# Altium schematic symbol library spider.SchLib: 53 symbols
Pins are listed as number, name and electrical type; pins without a type are passive.

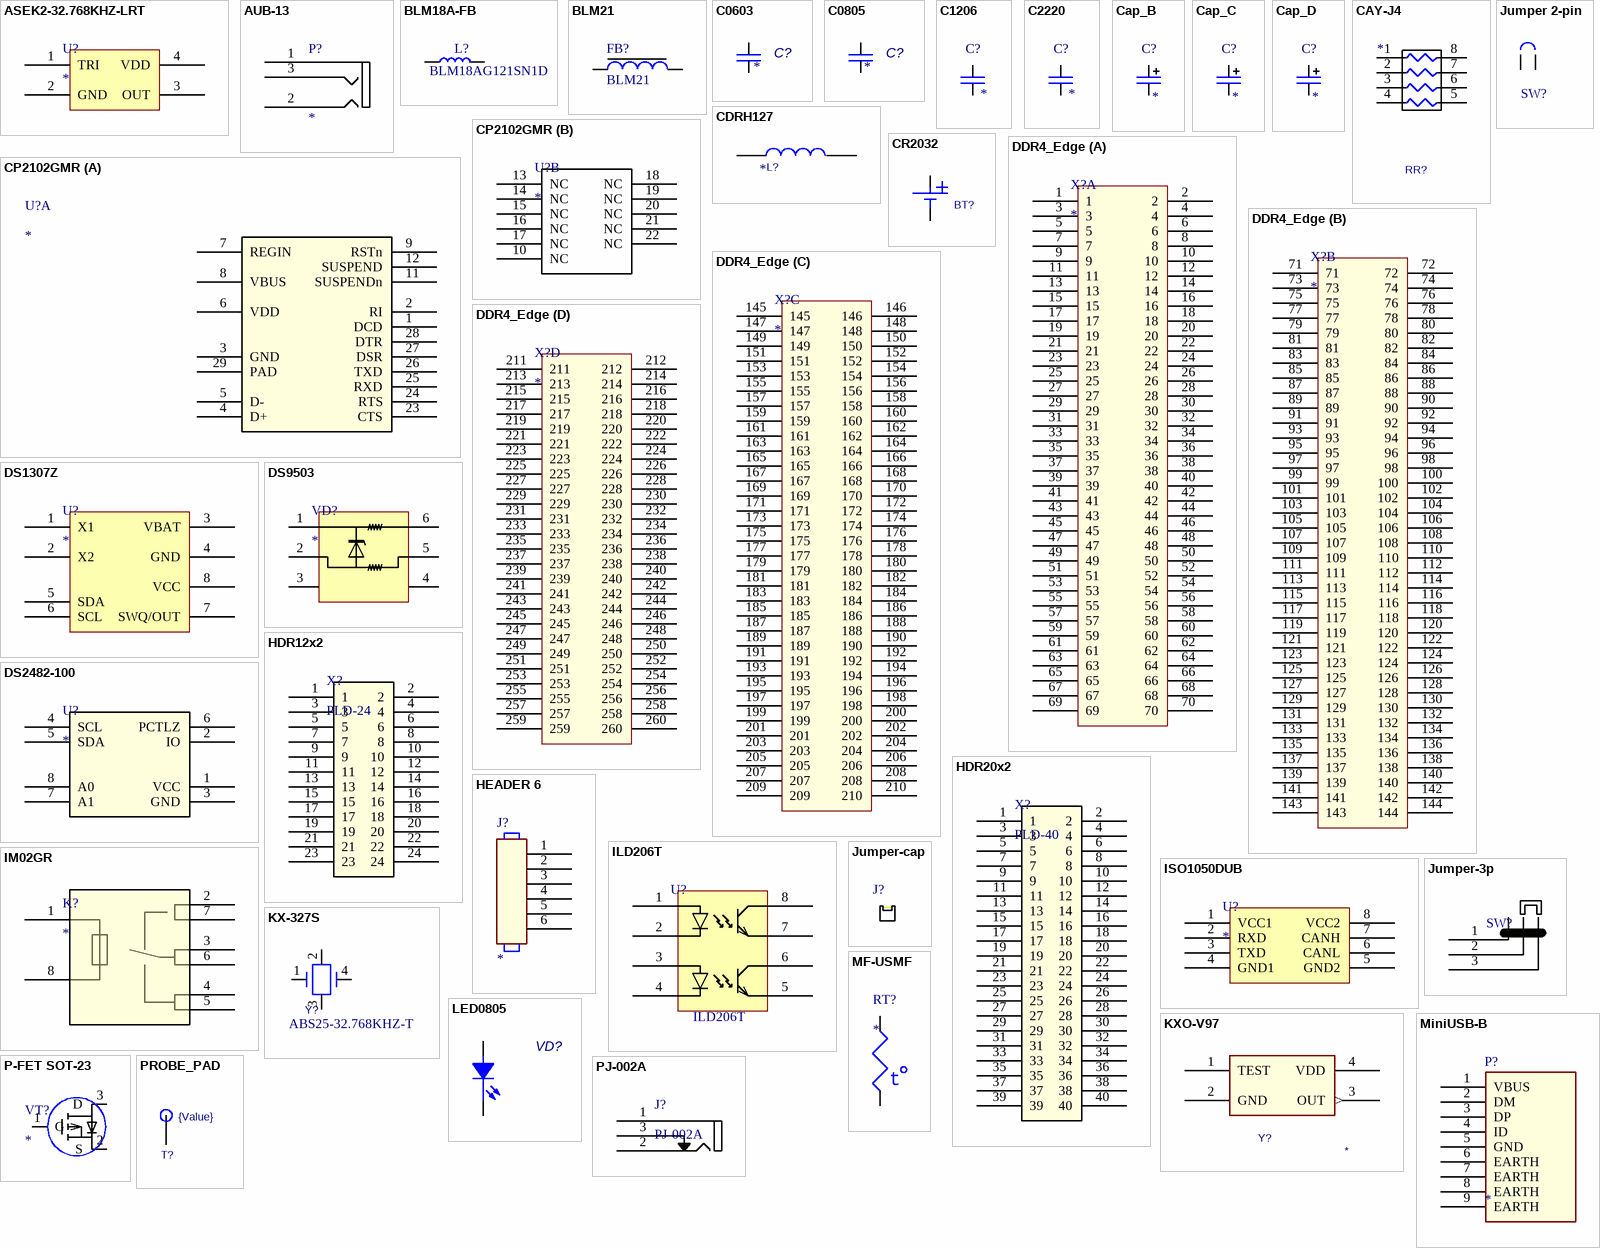
[diagram p0: symbols ASEK2-32.768KHZ-LRT to PROBE_PAD]

## ASEK2-32.768KHZ-LRT
designator U?
32.768KHZ 1.8V oscillator; Manufacturer: Abracon; P/N: ASEK2-32.768KHZ-LRT
footprint DDR4 SO_DIMM connector (2309407-1)
pins: 1 TRI, 2 GND, 3 OUT, 4 VDD

## AUB-13
designator P?
Audio connector mini-jack 3.5mm, 3 pins; Vendor: brownbear.ru
footprint AUB_13 (3.5mm audio jack, PTH on pcb, 3 contacts)
pins: 1 GND, 2 RIGHT, 3 LEFT

## BLM18A-FB
designator L?  P/N: BLM18AG121SN1D  (hidden comment: *)
Chip EMIFILr Inductor Type; Manufacturer: Murata
footprint CHIP0603
pins: 1, 2

## BLM21
designator FB?
Ferrite bead; Manufacturer: Murata; P/N: BLM21AG601SN1D; Package: 0805
footprint CC2012-0805 (Chip Capacitor, 2-Leads, Body 2,0x1,25mm, IPC Medium Density)
pins: 1, 2

## C0603
designator C?
C0603; P/N: *; Value: *
footprint CC1608-0603 (Chip Capacitor, 2-Leads, Body 1,6x0,8mm, IPC Medium Density)
pins: 1, 2

## C0805
designator C?
C0805; P/N: *; Value: *
footprint CC2012-0805 (Chip Capacitor, 2-Leads, Body 2,0x1,25mm, IPC Medium Density)
pins: 1, 2

## C1206
designator C?
Ceramic capacitor SMD 1206; P/N: *; Value: *
footprint CC3216-1206 (Chip Capacitor; Body 3.2 x 1.6 mm (LxW typ))
pins: 1, 2

## C2220
designator C?
Ceramic capacitor SMD 2220; P/N: *; Value: *
footprint C2220
pins: 1, 2

## Cap_B
designator C?
Tantalum Capacitor Case D; P/N: *; Value: *
footprint CAP_B (Capacitor, SM Tantalum; Body 3.5 x 2.8 mm (LxW typ))
pins: 1, 2

## Cap_C
designator C?
Tantalum Capacitor Case C; P/N: *; Value: *
footprint Cap_C (Capacitor, SM Tantalum; Body 6.0 x 3.2 mm (LxW typ))
pins: 1, 2

## Cap_D
designator C?
Tantalum Capacitor Case D; P/N: *; Value: *
footprint Cap_D (Capacitor, SM Tantalum; Body 7.3 x 4.3 mm (LxW typ))
pins: 1, 2

## CAY-J4
designator RR?
Resistor network 4x; Value: *
footprint CAY16-J4
pins: 1, 2, 3, 4, 5, 6, 7, 8

## CDRH127
designator L?
POWER INDUCTORS; Manufacturer: Sumida; P/N: *; Value: *
footprint CDRH127
pins: 1, 2

## CP2102GMR
designator U?
USB UART convertor; P/N: CP2102-GMR
footprint Qfn28-0.5
part A pins: 1 DCD, 2 RI, 3 GND, 4 D+, 5 D-, 6 VDD, 7 REGIN, 8 VBUS, 9 RSTn, 11 SUSPENDn, 12 SUSPEND, 23 CTS, 24 RTS, 25 RXD, 26 TXD, 27 DSR, 28 DTR, 29 PAD
part B pins: 10 NC, 13 NC, 14 NC, 15 NC, 16 NC, 17 NC, 18 NC, 19 NC, 20 NC, 21 NC, 22 NC

## CR2032
designator BT?  (value not drawn)
CR2032 battery holder; P/N: BH2032CH25
footprint BH2032CH25
pins: 1 0, 2 1

## DDR4_Edge
designator X?
DDR4 edge memory SO-DIMM connector, 260 pin; P/N: 2309407-1
footprint DDR4 SO_DIMM connector (2309407-1)
part A pins: 1, 2, 3, 4, 5, 6, 7, 8, 9, 10, 11, 12, 13, 14, 15, 16, 17, 18, 19, 20, 21, 22, 23, 24, 25, 26, 27, 28, 29, 30, 31, 32, 33, 34, 35, 36, 37, 38, 39, 40, 41, 42, 43, 44, 45, 46, 47, 48, 49, 50, 51, 52, 53, 54, 55, 56, 57, 58, 59, 60, 61, 62, 63, 64, 65, 66, 67, 68, 69, 70
part B pins: 71, 72, 73, 74, 75, 76, 77, 78, 79, 80, 81, 82, 83, 84, 85, 86, 87, 88, 89, 90, 91, 92, 93, 94, 95, 96, 97, 98, 99, 100, 101, 102, 103, 104, 105, 106, 107, 108, 109, 110, 111, 112, 113, 114, 115, 116, 117, 118, 119, 120, 121, 122, 123, 124, 125, 126, 127, 128, 129, 130, 131, 132, 133, 134, 135, 136, 137, 138, 139, 140, 141, 142, 143, 144
part C pins: 145, 146, 147, 148, 149, 150, 151, 152, 153, 154, 155, 156, 157, 158, 159, 160, 161, 162, 163, 164, 165, 166, 167, 168, 169, 170, 171, 172, 173, 174, 175, 176, 177, 178, 179, 180, 181, 182, 183, 184, 185, 186, 187, 188, 189, 190, 191, 192, 193, 194, 195, 196, 197, 198, 199, 200, 201, 202, 203, 204, 205, 206, 207, 208, 209, 210
part D pins: 211, 212, 213, 214, 215, 216, 217, 218, 219, 220, 221, 222, 223, 224, 225, 226, 227, 228, 229, 230, 231, 232, 233, 234, 235, 236, 237, 238, 239, 240, 241, 242, 243, 244, 245, 246, 247, 248, 249, 250, 251, 252, 253, 254, 255, 256, 257, 258, 259, 260

## DS1307Z
designator U?
I2C Real-Time Clock; Manufacturer: Maxim/Dallas; P/N: DS1307Z
footprint SOIC127P600X175-8N (SOIC 8, Pitch 1.27mm - Body 4x5mm, IPC Medium Density)
pins: 1 X1, 2 X2, 3 VBAT, 4 GND, 5 SDA, 6 SCL, 7 SWQ/OUT, 8 VCC

## DS2482-100
designator U?
I2C - 1-Wire master single channel; P/N: DS2482S-100+
footprint SOIC127P600X175-8N (SOIC 8, Pitch 1.27mm - Body 4x5mm, IPC Medium Density)
pins: 1 VCC, 2 IO, 3 GND, 4 SCL, 5 SDA, 6 PCTLZ, 7 A1, 8 A0

## DS9503
designator VD?
ESD Protection Diode with Resistors; P/N: DS9503P
footprint tsoc6
pins: 1, 2, 3, 4, 5, 6

## HDR12x2
designator X?, comment PLD-24
P/N: PLD-24
footprint PLD-24
pins: 1, 2, 3, 4, 5, 6, 7, 8, 9, 10, 11, 12, 13, 14, 15, 16, 17, 18, 19, 20, 21, 22, 23, 24

## HDR20x2
designator X?, comment PLD-40
P/N: PLD-40
footprint PLD-40
pins: 1, 2, 3, 4, 5, 6, 7, 8, 9, 10, 11, 12, 13, 14, 15, 16, 17, 18, 19, 20, 21, 22, 23, 24, 25, 26, 27, 28, 29, 30, 31, 32, 33, 34, 35, 36, 37, 38, 39, 40

## HEADER 6
designator J?
CONN HEADER 6POS, VERTICAL,  .100 STR TIN; Mfr: FCI; P/N: 68000-406HLF
footprint pls-6
pins: 1, 2, 3, 4, 5, 6

## ILD206T
designator U?  P/N: ILD206T  (hidden comment: *)
Optocoupler, Phototransistor Output, Dual Channel; Manufacturer: *
footprint SOIC-8-OPTOCOUPLER (SOIC 8, Pitch 1.27mm - Body 4x5mm, IPC Medium Density)
pins: 1 A1, 2 C1, 3 A2, 4 C2, 5 TE1, 6 TC2, 7 TE1, 8 TC1

## IM02GR
designator K?
Signal Relay; Coil Voltage VDC Nom:4.5V; P/N: IM02GR
footprint IM-Gull
pins: 1 C+, 2 I1, 3 S1, 4 A1, 5 A2, 6 S2, 7 I2, 8 C-

## ISO1050DUB
designator U?
ISOLATED CAN TRANSCEIVER; Manufacturer: TI; P/N: ISO1050DUB
footprint SO-G8/Z10.8 (Small Outline; 8 Leads; Body Width 6.4 mm; Pitch 2.54 mm)
pins: 1 VCC1, 2 RXD, 3 TXD, 4 GND1, 5 GND2, 6 CANL, 7 CANH, 8 VCC2

## Jumper 2-pin
designator SW?  (value not drawn)
Jumper 2-pin 2.54mm; P/N: PLS-2; P/N2: MJ-0
footprint JUMPER_2
pins: 1, 2

## Jumper-3p
designator SW?  (value not drawn)
PLS-3 2.54mm pin connector; P/N: PLS-3
footprint pls-3
pins: 1, 2, 3

## Jumper-cap
designator J?  (value not drawn)
Jumper; P/N: MJ-0

## KX-327S
designator Y?  P/N: ABS25-32.768KHZ-T  (hidden comment: *)
CRYSTAL 32.768KHZ 12.5PF SMD; Mfr: Abracon
footprint ABS25-32.768KHZ-T
pins: 1, 2 hidden, 2, 3 hidden, 3, 4

## KXO-V97
designator Y?
Quartz oscillator 7x5mm; Manufacturer: Geyer; Man P/N: KXO-V97; Value: *
footprint KXO_V97
pins: 1 TEST, 2 GND (power), 3 OUT (out), 4 VDD (power)

## LED0805
designator VD?  (value not drawn)
LED 0805; Value: *
footprint LED0805 (Chip LED, 2-Leads, Body 2,0x1,3mm, IPC Medium Density)
pins: A, K C

## MF-USMF
designator RT?
PTC Resettable Fuses; Manufacturer: Bourns; P/N: MF-USMF050
footprint MF-USMF
pins: 1, 2
text: t

## MiniUSB-B
designator P?
Mini USB Type B CONNECTOR; Mfr: Hirose; P/N: UX60SC-MB-5ST(80)
footprint MINI-USB-B5 SMT
pins: 1 VBUS (power), 2 DM, 3 DP, 4 ID, 5 GND (power), 6 EARTH, 7 EARTH, 8 EARTH, 9 EARTH

## P-FET SOT-23
designator VT?
P-FET transistor in SOT-23-3 package; P/N: *
footprint SO-G3 (SOT-23; 3 Leads; Body 3.0 x 2.6 mm, inc. leads (LxW max))
pins: 1 G, 2 S, 3 D

## PJ-002A
designator J?
DC POWER JACK; Manufacturer: CIU Inc; Vendor: Digi-key; Alternative P/N: DJK-02A; Man P/N: PJ-002A
footprint PJ-002A (DC POWER JACK)
pins: 1 GND, 2 RIGHT, 3 LEFT

## PROBE_PAD
designator T?  value {Value}  (hidden comment: *)
PROBE_PAD
footprint PAD
pins: 1

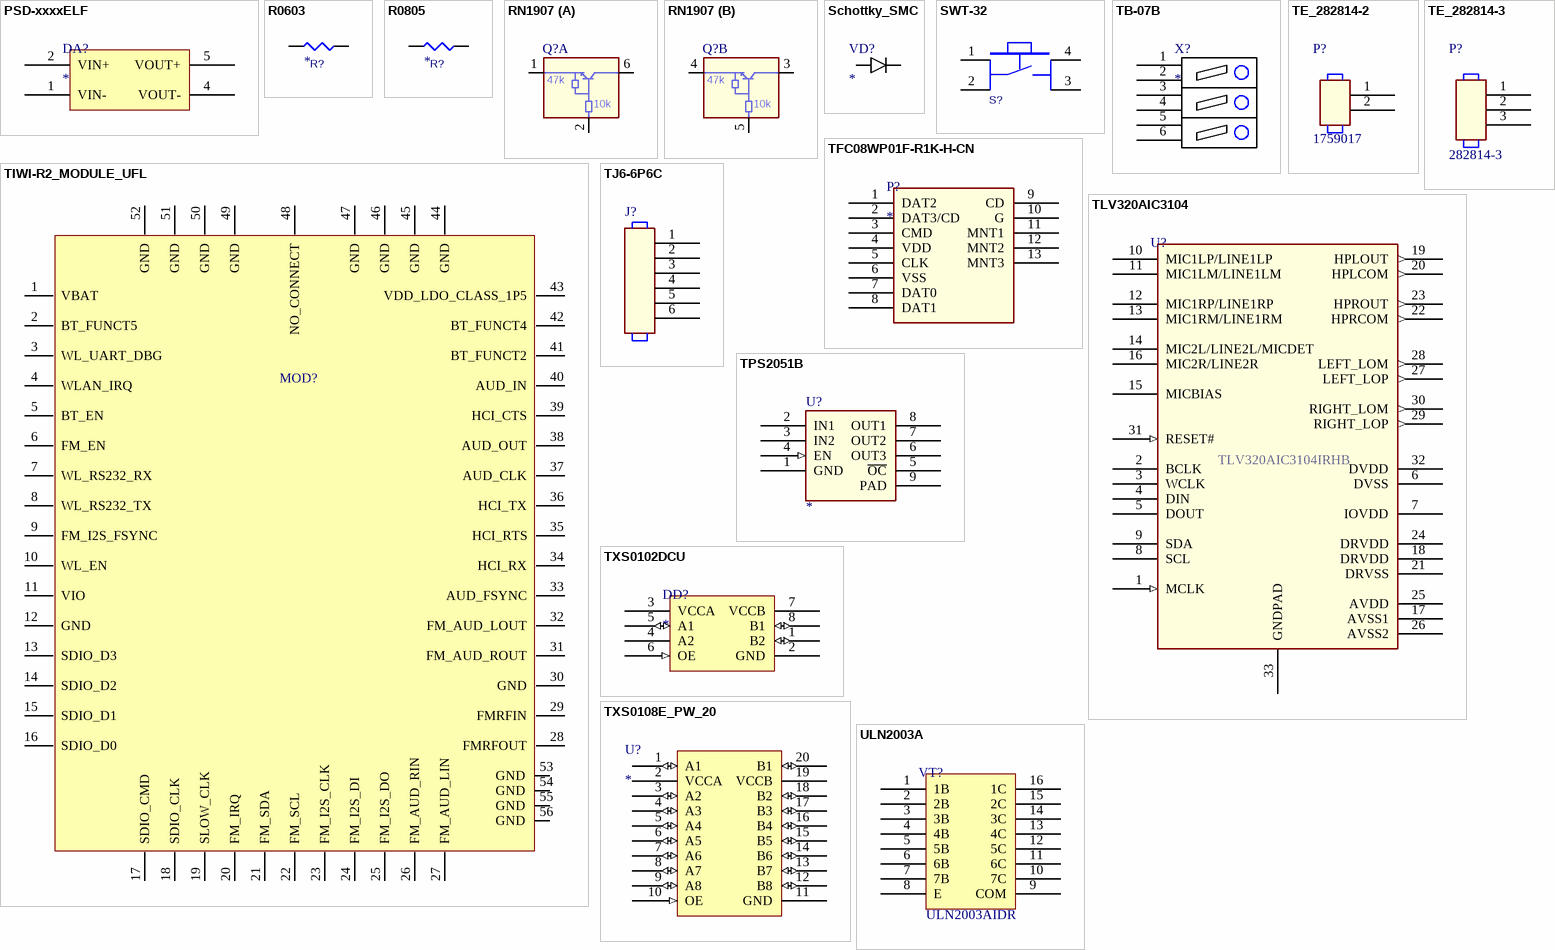
[diagram p1: symbols PSD-xxxxELF to ULN2003A]

## PSD-xxxxELF
designator DA?
single output isolated DC/DC converter; Manufacturer: PEAK electronics; P/N: PSD-0505ELF
footprint PSD-xxxxELF
pins: 1 VIN-, 2 VIN+, 4 VOUT-, 5 VOUT+

## R0603
designator R?
R0603; P/N: *; Value: *
footprint RESC1608X55N (Chip Resistor, EIA 0603, Metric 1608, Body 1.6x0.8mm, IPC Medium Density)
pins: 1, 2

## R0805
designator R?
Resistor 0805; P/N: *; Value: *
footprint R0805 (Chip Capacitor, 2-Leads, Body 2,0x1,25mm, IPC Medium Density)
pins: 1, 2

## RN1907
designator Q?  (value not drawn)
Transistor Silicon NPN; Mfr: Panasonic; P/N: DMC564040R
footprint SOT363-6L (SOT363, 6-Leads, Body 2x1.3mm, Pitch 0.65mm, Lead Span 2.1mm, IPC High Density)
part A pins: 1 4, 2 5, 6 3
part B pins: 3, 4, 5
part A text: 47k; 10k
part B text: 47k; 10k

## Schottky_SMC
designator VD?
footprint Diode_smc
pins: A, K

## SWT-32
designator S?  (value not drawn)
Push button; Vendor: brownbear.ru; P/N: SWT-32
footprint SWT-32 (SMD tact swicht)
pins: 1, 2, 3, 4

## TB-07B
designator X?
Terminal Block 3 pos; P/N: TB-07B
footprint TB-07B
pins: 1, 2, 3, 4, 5, 6

## TE_282814-2
designator P?  P/N2: 1759017  (hidden comment: *)
Terminal Block Connectors; Manufacturer: TE Connectivity; P/N: 282814-2
footprint TE_282814-2
pins: 1, 2

## TE_282814-3
designator P?  P/N: 282814-3  (hidden comment: *)
Terminal Block Connectors; Manufacturer: TE Connectivity
footprint TE_282814-3
pins: 1, 2, 3

## TFC08WP01F-R1K-H-CN
designator P?
Connector for microSD™ Card (Push-push Type); Mfr: AUK Contractors Co, LTD; P/N: TFC08WP01F-R1K-H-CN
footprint TFC08WP01F-A-R1K-H
pins: 1 DAT2, 2 DAT3/CD, 3 CMD, 4 VDD (power), 5 CLK, 6 VSS (power), 7 DAT0, 8 DAT1, 9 CD, 10 G, 11 MNT1, 12 MNT2, 13 MNT3

## TIWI-R2_MODULE_UFL
designator MOD?  (value not drawn)
TiWi-R2 with u.fl Module; MANUFACTURER: LSR; PART NUMBER: 450-0064; Geometry.Height: 1.9mm; PCB DECAL: TIWI-R2_UFL
footprint tiwi-r2
pins: 1 VBAT, 2 BT_FUNCT5, 3 WL_UART_DBG, 4 WLAN_IRQ, 5 BT_EN, 6 FM_EN, 7 WL_RS232_RX, 8 WL_RS232_TX, 9 FM_I2S_FSYNC, 10 WL_EN, 11 VIO, 12 GND, 13 SDIO_D3, 14 SDIO_D2, 15 SDIO_D1, 16 SDIO_D0, 17 SDIO_CMD, 18 SDIO_CLK, 19 SLOW_CLK, 20 FM_IRQ, 21 FM_SDA, 22 FM_SCL, 23 FM_I2S_CLK, 24 FM_I2S_DI, 25 FM_I2S_DO, 26 FM_AUD_RIN, 27 FM_AUD_LIN, 28 FMRFOUT, 29 FMRFIN, 30 GND, 31 FM_AUD_ROUT, 32 FM_AUD_LOUT, 33 AUD_FSYNC, 34 HCI_RX, 35 HCI_RTS, 36 HCI_TX, 37 AUD_CLK, 38 AUD_OUT, 39 HCI_CTS, 40 AUD_IN, 41 BT_FUNCT2, 42 BT_FUNCT4, 43 VDD_LDO_CLASS_1P5, 44 GND, 45 GND, 46 GND, 47 GND, 48 NO_CONNECT, 49 GND, 50 GND, 51 GND, 52 GND, 53 GND, 54 GND, 55 GND, 56 GND

## TJ6-6P6C
designator J?  (value not drawn)
CONN HEADER 6POS, VERTICAL,  .100 STR TIN; Mfr: Бурый Медведь; P/N: TJ6-6P6C
footprint TJ6-6P6C
pins: 1, 2, 3, 4, 5, 6

## TLV320AIC3104
designator U?  Man P/N: TLV320AIC3104IRHB  (hidden comment: *)
LOW-POWER STEREO AUDIO CODEC FOR PORTABLE AUDIO/TELEPHONY; Manufacturer: TI
footprint QFN5X5-32 (Quad Flat No Lead; 32 Terminals; Body 5 x 5 mm; Pitch 0.5 mm)
pins: 1 MCLK (in), 2 BCLK, 3 WCLK, 4 DIN, 5 DOUT, 6 DVSS (power), 7 IOVDD (power), 8 SCL, 9 SDA, 10 MIC1LP/LINE1LP, 11 MIC1LM/LINE1LM, 12 MIC1RP/LINE1RP, 13 MIC1RM/LINE1RM, 14 MIC2L/LINE2L/MICDET, 15 MICBIAS, 16 MIC2R/LINE2R, 17 AVSS1 (power), 18 DRVDD (power), 19 HPLOUT (out), 20 HPLCOM (out), 21 DRVSS (power), 22 HPRCOM (out), 23 HPROUT (out), 24 DRVDD (power), 25 AVDD (power), 26 AVSS2 (power), 27 LEFT_LOP (out), 28 LEFT_LOM (out), 29 RIGHT_LOP (out), 30 RIGHT_LOM (out), 31 RESET# (in), 32 DVDD (power), 33 GNDPAD (power)

## TPS2051B
designator U?
CURRENT-LIMITED, POWER-DISTRIBUTION SWITCHES; Mfr: TI; P/N: TPS2051BDGN
footprint R-PDSO-G8
pins: 1 GND (power), 2 IN1 (power), 3 IN2 (power), 4 EN (in), 5 ~{OC}, 6 OUT3 (power), 7 OUT2 (power), 8 OUT1 (power), 9 PAD

## TXS0102DCU
designator DD?
2bit Bidirectional voltage translator; Manufacturer: TI; P/N: TXS0102DCU; Package: DCU
footprint SOP127P600-8N
pins: 1 B2 (io), 2 GND (power), 3 VCCA (power), 4 A2 (power), 5 A1 (io), 6 OE (in), 7 VCCB (power), 8 B1 (io)

## TXS0108E_PW_20
designator U?
8-bit bidirectional voltage translator; GENERIC_PART_NUMBER: TXS0108E; Vendor: Texas Instruments; P/N: TXS0108EPWR; PACKAGE_DESIGNATOR: PW; PIN_COUNT: 20; FAMILY_NAME: AUTO DIRECTION SENSING DUAL SUPPLY TRANSLATOR; INDUSTRY_STD_PKG_TYPE: TSSOP; Datasheet URL: http://www.ti.com/lit/gpn/TXS0108E; Manufacturer: Texas Instruments; RefDes: RefDes; Type: DEV; Value: Value
footprint PW20
pins: 1 A1 (io), 2 VCCA (power), 3 A2 (io), 4 A3 (io), 5 A4 (io), 6 A5 (io), 7 A6 (io), 8 A7 (io), 9 A8 (io), 10 OE (in), 11 GND (power), 12 B8 (io), 13 B7 (io), 14 B6 (io), 15 B5 (io), 16 B4 (io), 17 B3 (io), 18 B2 (io), 19 VCCB (power), 20 B1 (io)

## ULN2003A
designator VT?  P/N: ULN2003AIDR  (hidden comment: *)
DARLINGTON TRANSISTOR ARRAYS; Manufacturer: TI
footprint SO-G16 (Small Outline; 16 Leads; Body Width 3.9 mm; Pitch 1.27 mm)
pins: 1 1B, 2 2B, 3 3B, 4 4B, 5 5B, 6 6B, 7 7B, 8 E, 9 COM, 10 7C, 11 6C, 12 5C, 13 4C, 14 3C, 15 2C, 16 1C